# EAGLE library part REZZONICS_USB-B-SMT (library DMFX-1_v1.0)
USB-B-SMT USB connector with shield pins connectable
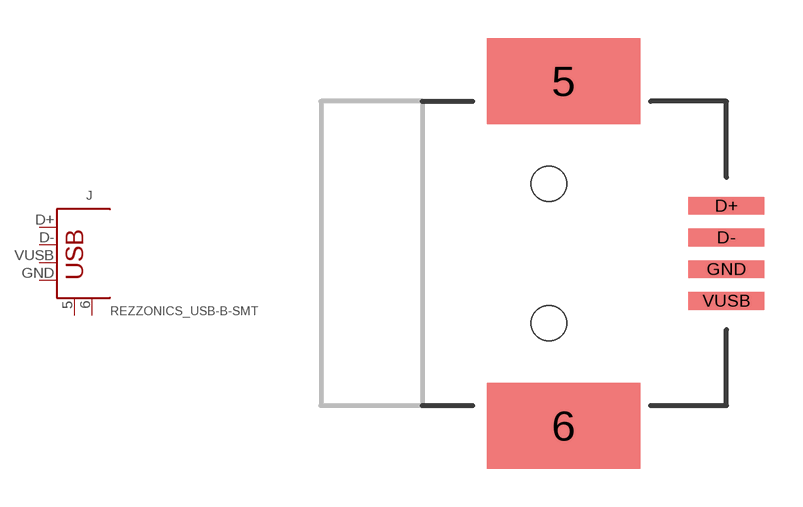
[diagram p18: symbol with the pads of REZZONICS_USB-B-SMT; footprint REZZONICS_USB-B-SMT]

Designator prefix J

## REZZONICS_USB-B-SMT  [REZZONICS_USB-B-SMT]
5  P$1
6  P$2
D+  D+
D-  D-
GND  GND
VUSB  VBUS

## Footprint REZZONICS_USB-B-SMT (pad centres in mm)
USB Series B Surface Mounted
smd 6.04 x 3.4: 5 0.58,6.8; 6 0.58,-6.8
smd 3 x 0.7: D+ 7,1.875; D- 7,0.625; GND 7,-0.625; VUSB 7,-1.875
hole 1.4 at 0,2.75
hole 1.4 at 0,-2.75